# Altium schematic symbol library ACG525-CORE.SchLib: 1 symbol
Pins are listed as number, name and electrical type; pins without a type are passive.

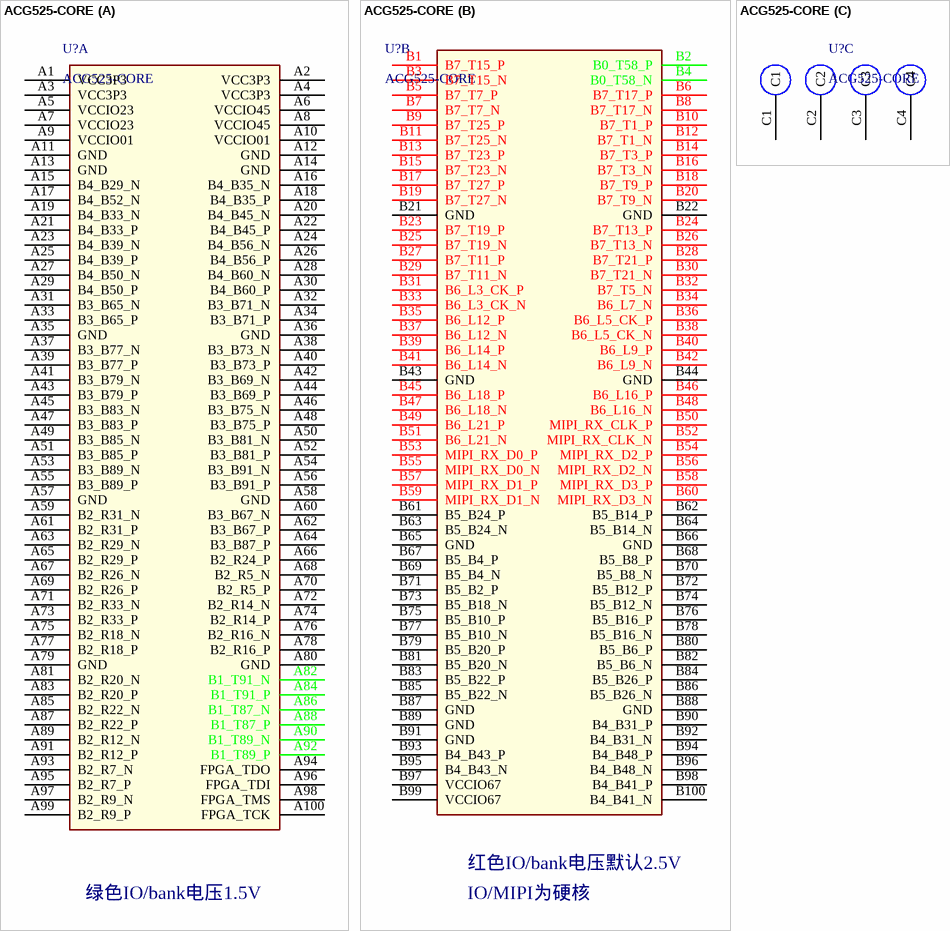
[diagram p0: symbol ACG525-CORE]

## ACG525-CORE
designator U?
footprint ACG525-CORE-1110
part A pins: A1 VCC3P3, A2 VCC3P3, A3 VCC3P3, A4 VCC3P3, A5 VCCIO23, A6 VCCIO45, A7 VCCIO23, A8 VCCIO45, A9 VCCIO01, A10 VCCIO01, A11 GND, A12 GND, A13 GND, A14 GND, A15 B4_B29_N, A16 B4_B35_N, A17 B4_B52_N, A18 B4_B35_P, A19 B4_B33_N, A20 B4_B45_N, A21 B4_B33_P, A22 B4_B45_P, A23 B4_B39_N, A24 B4_B56_N, A25 B4_B39_P, A26 B4_B56_P, A27 B4_B50_N, A28 B4_B60_N, A29 B4_B50_P, A30 B4_B60_P, A31 B3_B65_N, A32 B3_B71_N, A33 B3_B65_P, A34 B3_B71_P, A35 GND, A36 GND, A37 B3_B77_N, A38 B3_B73_N, A39 B3_B77_P, A40 B3_B73_P, A41 B3_B79_N, A42 B3_B69_N, A43 B3_B79_P, A44 B3_B69_P, A45 B3_B83_N, A46 B3_B75_N, A47 B3_B83_P, A48 B3_B75_P, A49 B3_B85_N, A50 B3_B81_N, A51 B3_B85_P, A52 B3_B81_P, A53 B3_B89_N, A54 B3_B91_N, A55 B3_B89_P, A56 B3_B91_P, A57 GND, A58 GND, A59 B2_R31_N, A60 B3_B67_N, A61 B2_R31_P, A62 B3_B67_P, A63 B2_R29_N, A64 B3_B87_P, A65 B2_R29_P, A66 B2_R24_P, A67 B2_R26_N, A68 B2_R5_N, A69 B2_R26_P, A70 B2_R5_P, A71 B2_R33_N, A72 B2_R14_N, A73 B2_R33_P, A74 B2_R14_P, A75 B2_R18_N, A76 B2_R16_N, A77 B2_R18_P, A78 B2_R16_P, A79 GND, A80 GND, A81 B2_R20_N, A82 B1_T91_N, A83 B2_R20_P, A84 B1_T91_P, A85 B2_R22_N, A86 B1_T87_N, A87 B2_R22_P, A88 B1_T87_P, A89 B2_R12_N, A90 B1_T89_N, A91 B2_R12_P, A92 B1_T89_P, A93 B2_R7_N, A94 FPGA_TDO, A95 B2_R7_P, A96 FPGA_TDI, A97 B2_R9_N, A98 FPGA_TMS, A99 B2_R9_P, A100 FPGA_TCK
part B pins: B1 B7_T15_P, B2 B0_T58_P, B3 B7_T15_N, B4 B0_T58_N, B5 B7_T7_P, B6 B7_T17_P, B7 B7_T7_N, B8 B7_T17_N, B9 B7_T25_P, B10 B7_T1_P, B11 B7_T25_N, B12 B7_T1_N, B13 B7_T23_P, B14 B7_T3_P, B15 B7_T23_N, B16 B7_T3_N, B17 B7_T27_P, B18 B7_T9_P, B19 B7_T27_N, B20 B7_T9_N, B21 GND, B22 GND, B23 B7_T19_P, B24 B7_T13_P, B25 B7_T19_N, B26 B7_T13_N, B27 B7_T11_P, B28 B7_T21_P, B29 B7_T11_N, B30 B7_T21_N, B31 B6_L3_CK_P, B32 B7_T5_N, B33 B6_L3_CK_N, B34 B6_L7_N, B35 B6_L12_P, B36 B6_L5_CK_P, B37 B6_L12_N, B38 B6_L5_CK_N, B39 B6_L14_P, B40 B6_L9_P, B41 B6_L14_N, B42 B6_L9_N, B43 GND, B44 GND, B45 B6_L18_P, B46 B6_L16_P, B47 B6_L18_N, B48 B6_L16_N, B49 B6_L21_P, B50 MIPI_RX_CLK_P, B51 B6_L21_N, B52 MIPI_RX_CLK_N, B53 MIPI_RX_D0_P, B54 MIPI_RX_D2_P, B55 MIPI_RX_D0_N, B56 MIPI_RX_D2_N, B57 MIPI_RX_D1_P, B58 MIPI_RX_D3_P, B59 MIPI_RX_D1_N, B60 MIPI_RX_D3_N, B61 B5_B24_P, B62 B5_B14_P, B63 B5_B24_N, B64 B5_B14_N, B65 GND, B66 GND, B67 B5_B4_P, B68 B5_B8_P, B69 B5_B4_N, B70 B5_B8_N, B71 B5_B2_P, B72 B5_B12_P, B73 B5_B18_N, B74 B5_B12_N, B75 B5_B10_P, B76 B5_B16_P, B77 B5_B10_N, B78 B5_B16_N, B79 B5_B20_P, B80 B5_B6_P, B81 B5_B20_N, B82 B5_B6_N, B83 B5_B22_P, B84 B5_B26_P, B85 B5_B22_N, B86 B5_B26_N, B87 GND, B88 GND, B89 GND, B90 B4_B31_P, B91 GND, B92 B4_B31_N, B93 B4_B43_P, B94 B4_B48_P, B95 B4_B43_N, B96 B4_B48_N, B97 VCCIO67, B98 B4_B41_P, B99 VCCIO67, B100 B4_B41_N
part C pins: C1, C2, C3, C4
part A text: 绿色IO/bank电压1.5V
part B text: 红色IO/bank电压默认2.5V; IO/MIPI为硬核